# Altium footprint library 825433-4.PcbLib: 1 footprints
Each footprint in its own frame and in the unit in brackets; x right, y up, seen from the top. Pads: shape width x height; smd on the part's side, far side on the other; paste and mask are expansions set on the pad; w line width, h text height; cw(c..) or ccw(c..) is an arc to the next point about the centre after c.
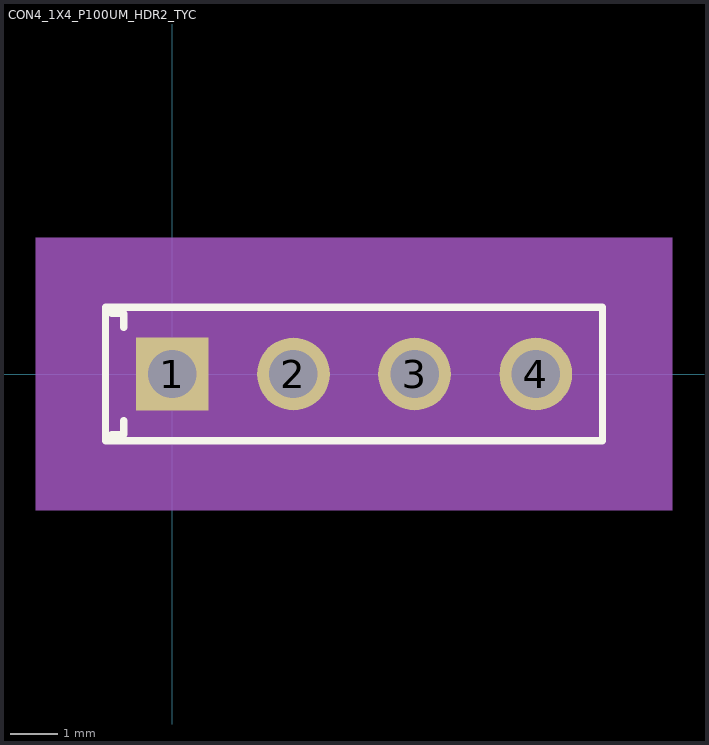
[diagram p0: the footprint, top view; thin cyan lines are the x and y axes]

## CON4_1X4_P100UM_HDR2_TYC [mil]
pads (4):
  rect 60x60 hole 40 mask+0: 1(0,0)
  round 60 hole 40 mask+0: 2(100,0) 3(200,0) 4(300,0)
Top Overlay:
  lines w6: -50,-50 -40,-50 -40,-38.46 ; -50,50 -40,50 -40,38.46 ; -55,-55 355,-55 355,55 -55,55 -55,-55
Mechanical 5:
  region: 412.5,-112.5 -112.5,-112.5 -112.5,112.5 412.5,112.5
Mechanical 13:
  lines w1: -50,-50 -40,-50 -40,50 -50,50 ; -50,-50 350,-50 350,50 -50,50 ; -50,-50 -50,50
Mechanical 15:
  region: 360,60 -60,60 -60,-60 360,-60
  lines w6: -60,-60 -60,60 360,60 360,-60 -60,-60
3D body "CON4_1X4_P100UM_HDR2_TYC.step": height 374.02, standoff -200, extent -50,-50 350,50